# Altium schematic symbol library MasterLibrary.SchLib: 27 symbols
Pins are listed as number, name and electrical type; pins without a type are passive.

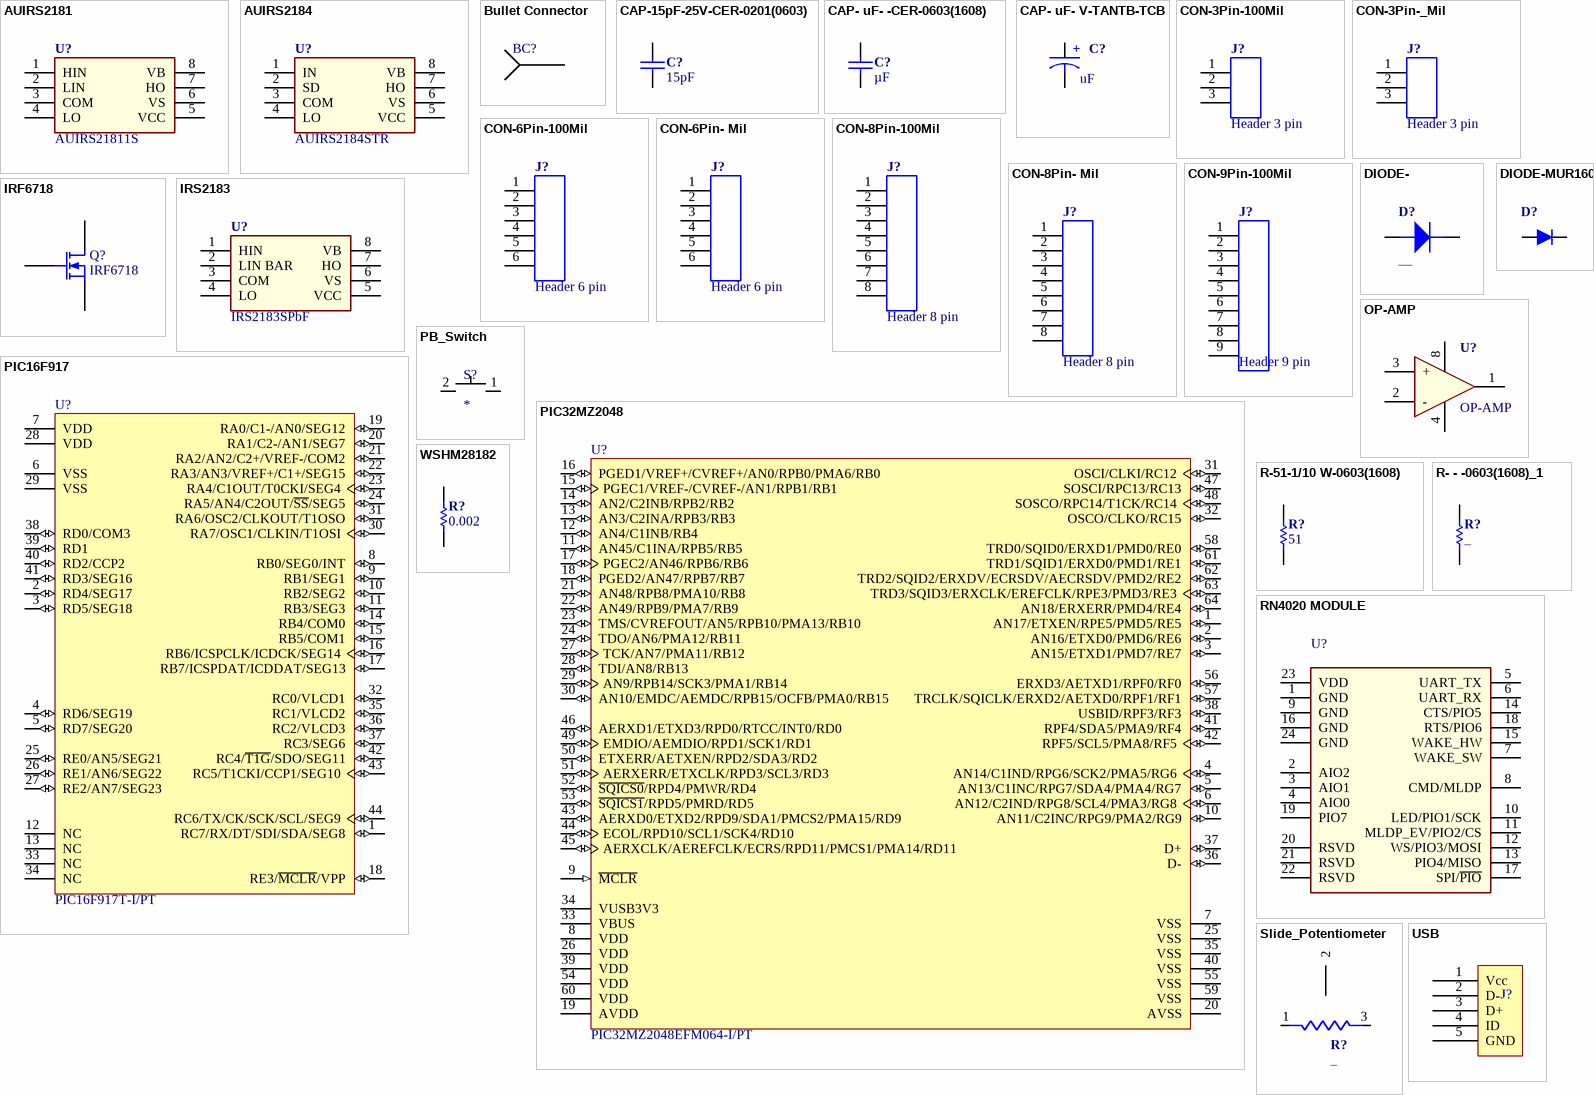
[diagram p0: symbols AUIRS2181 to WSHM28182]

## AUIRS2181
designator U?, comment AUIRS21811S
IC, HS/LS INDEPENDENT DRIVER; Value: AUIRS21811S
footprint SOIC-8 (8 LEAD SOIC)
pins: 1 HIN, 2 LIN, 3 COM, 4 LO (power), 5 VCC (power), 6 VS (power), 7 HO, 8 VB

## AUIRS2184
designator U?, comment AUIRS2184STR
IC, HS/LS DRIVER; Value: AUIRS2184STR
footprint SOIC-8 (8 LEAD SOIC)
pins: 1 IN, 2 SD, 3 COM, 4 LO (power), 5 VCC (power), 6 VS (power), 7 HO, 8 VB

## Bullet Connector
designator BC?
SMD BULLET CONNECTOR
pins: 0

## CAP-15pF-25V-CER-0201(0603)
designator C?, comment 15pF
CAP CER 15pF 25V 5% C0G 0603; RoHS: RoHS Compliant; Category: Capacitors; Capacitance: 15pF; Voltage - Rated: 25V; Tolerance: ±5%; Temperature Coefficient: C0G; Mounting Type: Surface Mount, MLCC; Applications: General Purpose; Package / Case: 0201 (0603 Metric); Size / Dimension: 0.063" L x 0.031" W (1.60mm x 0.80mm); Thickness (Max): 0.035" (0.90mm)
pins: 1, 2

## CAP- uF- -CER-0603(1608)
designator C?, comment µF
CAP CER UF V % X7R 0603; RoHS: RoHS Compliant; Category: Capacitors; Capacitance: µF; Voltage - Rated: V; Tolerance: ±%; Mounting Type: Surface Mount, MLCC; Applications: General Purpose; Package / Case: 0603 (1608 Metric); Size / Dimension: 0.063" L x 0.031" W (1.60mm x 0.80mm); Thickness (Max): 0.035" (0.90mm)
footprint CAP-0603(1608)
pins: 1, 2

## CAP- uF- V-TANTB-TCB
designator C?  value uF
CAP, __uF, __V, TYPE
pins: 1 POSITIVE, 2 NEGATIVE
text: +

## CON-3Pin-100Mil
designator J?, comment Header 3 pin
Con, Locking, 3 pin, .1 pitch
footprint HEADER-3-100MIL (100 mil Pitch)
pins: 1, 2, 3

## CON-3Pin-_Mil
designator J?, comment Header 3 pin
Con, Locking, 3 pin, __ pitch
pins: 1, 2, 3

## CON-6Pin-100Mil
designator J?, comment Header 6 pin
Header, 6 pin, .1 pitch; ARMA_PN: 51-000044-ARD
footprint HEADER-6-100mil (100 mil spacing)
pins: 1, 2, 3, 4, 5, 6

## CON-6Pin- Mil
designator J?, comment Header 6 pin
Header, 6 pin,  pitch
pins: 1, 2, 3, 4, 5, 6

## CON-8Pin-100Mil
designator J?, comment Header 8 pin
Header, 8 pin, .1 pitch
footprint HEADER-8-100MIL (100 Mil Pitch)
pins: 1, 2, 3, 4, 5, 6, 7, 8

## CON-8Pin- Mil
designator J?, comment Header 8 pin
Header, 8 pin, pitch
pins: 1, 2, 3, 4, 5, 6, 7, 8

## CON-9Pin-100Mil
designator J?, comment Header 9 pin
Header, 9 pin, .1 pitch
footprint HEADER-9-100MIL (100 Mil Pitch)
pins: 1, 2, 3, 4, 5, 6, 7, 8, 9

## DIODE-
designator D?, comment __
DIODE,; Value: __
pins: 1 ANODE, 2 CATHODE

## DIODE-MUR160
designator D?
DIODE, MUR160
footprint D-SMB (DIODE)
pins: 1 ANODE, 2 CATHODE

## IRF6718
designator Q?
IRF6718L2TRPBF; Published: 8-Jun-2000; LatestRevisionDate: 17-Jul-2002; LatestRevisionNote: Re-released for DXP Platform.; PackageVersion: 1995/1996; PackageReference: E3; Publisher: Altium Limited; PackageDescription: TO, Flat Index; 3 In-Line, Axial Leads; Body Dia. 4.6mm; Lead Dia. 0.5 mm (max)
simulation model NMOS (MOSFET-N)
footprint DirectFet-7
pins: 1 G, 2 D, 3 S

## IRS2183
designator U?, comment IRS2183SPbF
IC, HS/LS DRIVER; Value: IRS2183SPbF
footprint SOIC-8 (8 LEAD SOIC)
pins: 1 HIN, 2 LIN BAR, 3 COM, 4 LO (power), 5 VCC (power), 6 VS (power), 7 HO, 8 VB

## OP-AMP
designator U?
IC, OP AMP, CMOS; Value: OP-AMP
pins: 1 OUT, 2 -, 3 +, 4 GND (power), 8 VCC (power)

## PB_Switch
designator S?
Manufacturer: TE Connectivity / Alcoswitch; Manufacturer Part Number: 2-1437565-8; Actuator: Round; Contact Form: SPST; Current Rating: 50 mA; Illumination: None; Switch Function: OFF - (ON); Voltage Rating DC: 24 VDC; Supplier 1: Mouser; Category: Pushbutton Switches; Stock 1: 18161; Pricing 1: 1=0.140, 10=0.130, 25=0.117, 50=0.108, 100=0.097, 200=0.092, 500=0.087, 1000=0.083 (USD); Contact Plating: Silver; Height: 4.3 mm; Material: Polyamide; Termination Style: Solder Pin; Brand: TE Connectivity / Alcoswitch; Mounting Style: SMD/SMT; Product Category: Pushbutton Switches; Standard Pack Qty: 750; Minimum Order Quantity: 1; Reeling: False; ComponentLink1URL: http://www.mouser.com/ds/2/418/NG_CD_2-1437565-7_V-663783.pdf; ComponentLink1Description: http://www.mouser.com/ds/2/418/NG_CD_2-1437565-7_V-663783.pdf; Supplier Part Number 1: 506-2-1437565-8
footprint Pushbutton_switches
pins: 1, 2

## PIC16F917
designator U?, comment PIC16F917T-I/PT
Flash-Based, 8-Bit CMOS Microcontroller with LCD Driver and nanoWatt Technology, 8K (x14-Bit words) Program Memory, 608 Bytes Data Memory, 35 I/O pins, 44-Pin TQFP, Standard VDD Range, Industrial Temperature, Tape and Reel; Manufacturer: Microchip Technology; Manufacturer Part Number: PIC16F917-I/PT; Program Memory Type: Flash; Data RAM Size: 352 B; Data RAM Type: RAM; Data ROM Size: 256 B; Data ROM Type: EEPROM; Interface Type: AUSART, I2C, SPI, SSP; Number of I/Os: 35 I/O; Program Memory Size: 14 kB; ADC Resolution: 10 bit; Core: PIC16; Data Bus Width: 8 bit; Maximum Clock Frequency: 20 MHz; Number of ADC Channels: 8; Number of Timers/Counters: 2 Timer; Operating Supply Voltage: 2 V to 5.5 V; PackagingOptionsScrubbed: PIC16F917TIPT; Supply Voltage - Max: 5.5 V; Supply Voltage - Min: 4.5 V; Supplier 1: Mouser; RoHS: RoHS Compliant; Category: 8-bit Microcontrollers - MCU; Stock 1: 160; Pricing 1: 1=3.59, 10=2.99, 25=2.74, 100=2.48 (USD); Package / Case: TQFP-44; Packaging: Tray; Product: MCU; Series: PIC16F917; Brand: Microchip Technology; Mounting Style: SMD/SMT; Maximum Operating Temperature: + 85 C; Minimum Operating Temperature: - 40 C; Processor Series: PIC16; Product Category: PICmicro MCUs; Standard Pack Qty: 160; RoHS - Mouser: Y; Minimum Order Quantity: 1; Reeling: False; ComponentLink1URL: http://www.mouser.com/ds/2/268/41250B-80422.pdf; ComponentLink1Description: http://www.mouser.com/ds/2/268/41250B-80422.pdf; Supplier Part Number 1: 579-PIC16F917-I/PT
footprint TQFP-44 (44-Pin Thin Quad Flat Pack 0.8 mm Pitch, IPC Medium Density)
pins: 1 RC7/RX/DT/SDI/SDA/SEG8 (io), 2 RD4/SEG17 (io), 3 RD5/SEG18 (io), 4 RD6/SEG19 (io), 5 RD7/SEG20 (io), 6 VSS (power), 7 VDD (power), 8 RB0/SEG0/INT (io), 9 RB1/SEG1 (io), 10 RB2/SEG2 (io), 11 RB3/SEG3 (io), 12 NC, 13 NC, 14 RB4/COM0 (io), 15 RB5/COM1 (io), 16 RB6/ICSPCLK/ICDCK/SEG14 (io), 17 RB7/ICSPDAT/ICDDAT/SEG13 (io), 18 RE3/~{MCLR}/VPP (io), 19 RA0/C1-/AN0/SEG12 (io), 20 RA1/C2-/AN1/SEG7 (io), 21 RA2/AN2/C2+/VREF-/COM2 (io), 22 RA3/AN3/VREF+/C1+/SEG15 (io), 23 RA4/C1OUT/T0CKI/SEG4 (io), 24 RA5/AN4/C2OUT/~{SS}/SEG5 (io), 25 RE0/AN5/SEG21 (io), 26 RE1/AN6/SEG22 (io), 27 RE2/AN7/SEG23 (io), 28 VDD (power), 29 VSS (power), 30 RA7/OSC1/CLKIN/T1OSI (io), 31 RA6/OSC2/CLKOUT/T1OSO (io), 32 RC0/VLCD1 (io), 33 NC, 34 NC, 35 RC1/VLCD2 (io), 36 RC2/VLCD3 (io), 37 RC3/SEG6 (io), 38 RD0/COM3 (io), 39 RD1 (io), 40 RD2/CCP2 (io), 41 RD3/SEG16 (io), 42 RC4/~{T1G}/SDO/SEG11 (io), 43 RC5/T1CKI/CCP1/SEG10 (io), 44 RC6/TX/CK/SCK/SCL/SEG9 (io)

## PIC32MZ2048
designator U?, comment PIC32MZ2048EFM064-I/PT
32-Bit Microcontroller with Audio and Graphics Interfaces, HS USB, Ethernet, and Advanced Analog, 1024 KB Program Memory, 53 I/O Pins, PMP, Extended Temperature, 64-Pin QFP (PT64), Tray; PartNumber: PIC32MZ1024ECG064-E/PT; Manufacturer: Microchip; VCC Range: 2.2 to 3.6 V; PackageVersion: C04-085B; DatasheetVersion: Rev. B; ComponentLink1URL: http://www.microchip.com/; ComponentLink2Description: Datasheet; Mounting Technology: Surface Mount; ComponentLink1Description: Manufacturer URL; Packing: Tray; PackageReference: QFP-PT64; PackageDescription: 64-Lead Plastic Thin Quad Flatpack, 10 x 10 mm Body, 0.5 mm Pitch; ComponentLink2URL: http://ww1.microchip.com/downloads/en/DeviceDoc/60001191B.pdf; ComponentLink3URL: http://ww1.microchip.com/downloads/en/DeviceDoc/60001191B.pdf; ComponentLink3Description: Package Specification
footprint TQFP-64 (TQFP, 64-Leads, Body 10x10mm, Pitch 0.5mm)
pins: 1 AN17/ETXEN/RPE5/PMD5/RE5 (io), 2 AN16/ETXD0/PMD6/RE6 (io), 3 AN15/ETXD1/PMD7/RE7 (io), 4 AN14/C1IND/RPG6/SCK2/PMA5/RG6 (io), 5 AN13/C1INC/RPG7/SDA4/PMA4/RG7 (io), 6 AN12/C2IND/RPG8/SCL4/PMA3/RG8 (io), 7 VSS (power) "Ground reference for logic, I/O pins, and USB. This pin must be connected at all times.", 8 VDD (power) "Positive supply for peripheral logic and I/O pins. This pin must be connected at all times.", 9 ~{MCLR} (in) "Master Clear (Reset) input. This pin is an active-low Reset to the device.", 10 AN11/C2INC/RPG9/PMA2/RG9 (io), 11 AN45/C1INA/RPB5/RB5 (io), 12 AN4/C1INB/RB4 (io), 13 AN3/C2INA/RPB3/RB3 (io), 14 AN2/C2INB/RPB2/RB2 (io), 15 PGEC1/VREF-/CVREF-/AN1/RPB1/RB1 (io), 16 PGED1/VREF+/CVREF+/AN0/RPB0/PMA6/RB0 (io), 17 PGEC2/AN46/RPB6/RB6 (io), 18 PGED2/AN47/RPB7/RB7 (io), 19 AVDD (power) "Positive supply for analog modules. This pin must be connected at all times.", 20 AVSS (power) "Ground reference for analog modules. This pin must be connected at all times.", 21 AN48/RPB8/PMA10/RB8 (io), 22 AN49/RPB9/PMA7/RB9 (io), 23 TMS/CVREFOUT/AN5/RPB10/PMA13/RB10 (io), 24 TDO/AN6/PMA12/RB11 (io), 25 VSS (power) "Ground reference for logic, I/O pins, and USB. This pin must be connected at all times.", 26 VDD (power) "Positive supply for peripheral logic and I/O pins. This pin must be connected at all times.", 27 TCK/AN7/PMA11/RB12 (io), 28 TDI/AN8/RB13 (io), 29 AN9/RPB14/SCK3/PMA1/RB14 (io), 30 AN10/EMDC/AEMDC/RPB15/OCFB/PMA0/RB15 (io), 31 OSCI/CLKI/RC12 (io), 32 OSCO/CLKO/RC15 (io), 33 VBUS (power) "USB bus power monitor", 34 VUSB3V3 (power) "USB internal transceiver supply. If the USB module is not used, this pin must be connected to VSS.", 35 VSS (power) "Ground reference for logic, I/O pins, and USB. This pin must be connected at all times.", 36 D- (io) "USB D-", 37 D+ (io) "USB D+", 38 USBID/RPF3/RF3 (io), 39 VDD (power) "Positive supply for peripheral logic and I/O pins. This pin must be connected at all times.", 40 VSS (power) "Ground reference for logic, I/O pins, and USB. This pin must be connected at all times.", 41 RPF4/SDA5/PMA9/RF4 (io), 42 RPF5/SCL5/PMA8/RF5 (io), 43 AERXD0/ETXD2/RPD9/SDA1/PMCS2/PMA15/RD9 (io), 44 ECOL/RPD10/SCL1/SCK4/RD10 (io), 45 AERXCLK/AEREFCLK/ECRS/RPD11/PMCS1/PMA14/RD11 (io), 46 AERXD1/ETXD3/RPD0/RTCC/INT0/RD0 (io), 47 SOSCI/RPC13/RC13 (io), 48 SOSCO/RPC14/T1CK/RC14 (io), 49 EMDIO/AEMDIO/RPD1/SCK1/RD1 (io), 50 ETXERR/AETXEN/RPD2/SDA3/RD2 (io), 51 AERXERR/ETXCLK/RPD3/SCL3/RD3 (io), 52 ~{SQICS0}/RPD4/PMWR/RD4 (io), 53 ~{SQICS1}/RPD5/PMRD/RD5 (io), 54 VDD (power) "Positive supply for peripheral logic and I/O pins. This pin must be connected at all times.", 55 VSS (power) "Ground reference for logic, I/O pins, and USB. This pin must be connected at all times.", 56 ERXD3/AETXD1/RPF0/RF0 (io), 57 TRCLK/SQICLK/ERXD2/AETXD0/RPF1/RF1 (io), 58 TRD0/SQID0/ERXD1/PMD0/RE0 (io), 59 VSS (power) "Ground reference for logic, I/O pins, and USB. This pin must be connected at all times.", 60 VDD (power) "Positive supply for peripheral logic and I/O pins. This pin must be connected at all times.", 61 TRD1/SQID1/ERXD0/PMD1/RE1 (io), 62 TRD2/SQID2/ERXDV/ECRSDV/AECRSDV/PMD2/RE2 (io), 63 TRD3/SQID3/ERXCLK/EREFCLK/RPE3/PMD3/RE3 (io), 64 AN18/ERXERR/PMD4/RE4 (io)

## R-51-1/10 W-0603(1608)
designator R?, comment 51
RES  51 OHM 1/10 W 0603(1608) SMD; Manufacturer: YAGEO; Manufacturer Part Number: RC0603JR-0751RL; Power (Watts): 1/10 W; RoHS: RoHS Compliant; Category: Resistors; Resistance: 51; Composition: Thick Film; Package / Case: 0603 (1608 Metric); Supplier Device Package: 0603; Size / Dimension: 0.063" L x 0.031" W (1.60mm x 0.80mm); Height: 0.022" (0.55mm); Number of Terminations: 2
footprint R-0603(1608)-R (Resistor 0603(1608) Reflow)
pins: 1, 2

## R- - -0603(1608)_1
designator R?, comment _
RES __ OHM ___ W ___ SMD; Power (Watts): W, W; RoHS: RoHS Compliant; Category: Resistors; Resistance: _; Composition: Thick Film; Package / Case: 0603 (1608 Metric); Supplier Device Package: 0603; Size / Dimension: 0.063" L x 0.031" W (1.60mm x 0.80mm); Height: 0.022" (0.55mm); Number of Terminations: 2
footprint R-0603(1608)
pins: 1, 2

## RN4020 MODULE
designator U?  (value not drawn)
footprint RN4020 MODULE (24 Pins)
pins: 1 GND, 2 AIO2, 3 AIO1, 4 AIO0, 5 UART_TX, 6 UART_RX, 7 WAKE_SW, 8 CMD/MLDP, 9 GND, 10 LED/PIO1/SCK, 11 MLDP_EV/PIO2/CS, 12 WS/PIO3/MOSI, 13 PIO4/MISO, 14 CTS/PIO5, 15 WAKE_HW, 16 GND, 17 SPI/~{PIO}, 18 RTS/PIO6, 19 PIO7, 20 RSVD, 21 RSVD, 22 RSVD, 23 VDD, 24 GND
1 alternate drawing of the same symbol

## Slide_Potentiometer
designator R?, comment _
Slide_Potentiometer_10Kohms_Bourns; Power (Watts): W, W; RoHS: RoHS Compliant; Category: Resistors; Resistance: _; Composition: Thick Film; Package / Case: 0603 (1608 Metric); Supplier Device Package: 0603; Size / Dimension: 0.063" L x 0.031" W (1.60mm x 0.80mm); Height: 0.022" (0.55mm); Number of Terminations: 2
footprint Slide_Potentiometer (Slide_Potentiometer_10Kohms_Bourns)
pins: 1 R1, 2, 3 R2

## USB
designator J?  (value not drawn)
USB_Connector_5P_MICRO_USB_FCI; Manufacturer: FCI; Manufacturer Part Number: 10118194-0001LF; Connector Type: Micro USB Type B receptacle; Current Rating: 1.8 A; Gender: Female; Mounting Angle: Right; Number of Contacts: 5 Contact; Insulation Resistance: 1000 MOhms; Supplier 1: Mouser; RoHS: RoHS Compliant; Category: USB Connectors; Stock 1: 17001; Pricing 1: 1=0.410, 10=0.396, 100=0.278, 500=0.238, 1200=0.198, 2400=0.181, 4800=0.170, 9600=0.159, 24000=0.153 (USD); Color: Black; Contact Plating: Gold; Operating Temperature Range: - 55 C to + 85 C; Packaging: Reel; Product: Micro USB Type B Connectors; Termination Style: SMD/SMT; Brand: FCI; Contact Material: Copper Alloy; Flammability Rating: UL 94 V-0; Standard: USB 2.0; Standard Pack Qty: 9600; RoHS - Mouser: Y; Minimum Order Quantity: 1; Reeling: True; ComponentLink1URL: http://www.mouser.com/ds/2/154/10118194AC-197217.pdf; ComponentLink1Description: http://www.mouser.com/ds/2/154/10118194AC-197217.pdf; Supplier Part Number 1: 649-10118194-0001LF
footprint USB_Connector_5P_MICRO_USB_FCI
pins: 1 Vcc, 2 D-, 3 D+, 4 ID, 5 GND

## WSHM28182
designator R?, comment 0.002
RES  0.002 OHM  7W 2818(7146)-SMD; Manufacturer: Vishay/Dale; Manufacturer Part Number: WSHM28182L000FEA; RoHS: RoHS Compliant; Category: Resistors; Resistance: 0.002; Power (Watts): 7 W; Composition: Thick Film; Package / Case: 2818 (7146 Metric); Supplier Device Package: 2818 (7146); Size / Dimension: 0.063" L x 0.031" W (1.60mm x 0.80mm); Height: 0.022" (0.55mm); Number of Terminations: 4
footprint WSHM28182L000FEB
pins: 1, 2